# Altium footprint library PcbLib1.PcbLib: 28 footprints (part 2 of 2)
Each footprint in its own frame and in the unit in brackets; x right, y up, seen from the top. Pads: shape width x height; smd on the part's side, far side on the other; paste and mask are expansions set on the pad; w line width, h text height; cw(c..) or ccw(c..) is an arc to the next point about the centre after c.
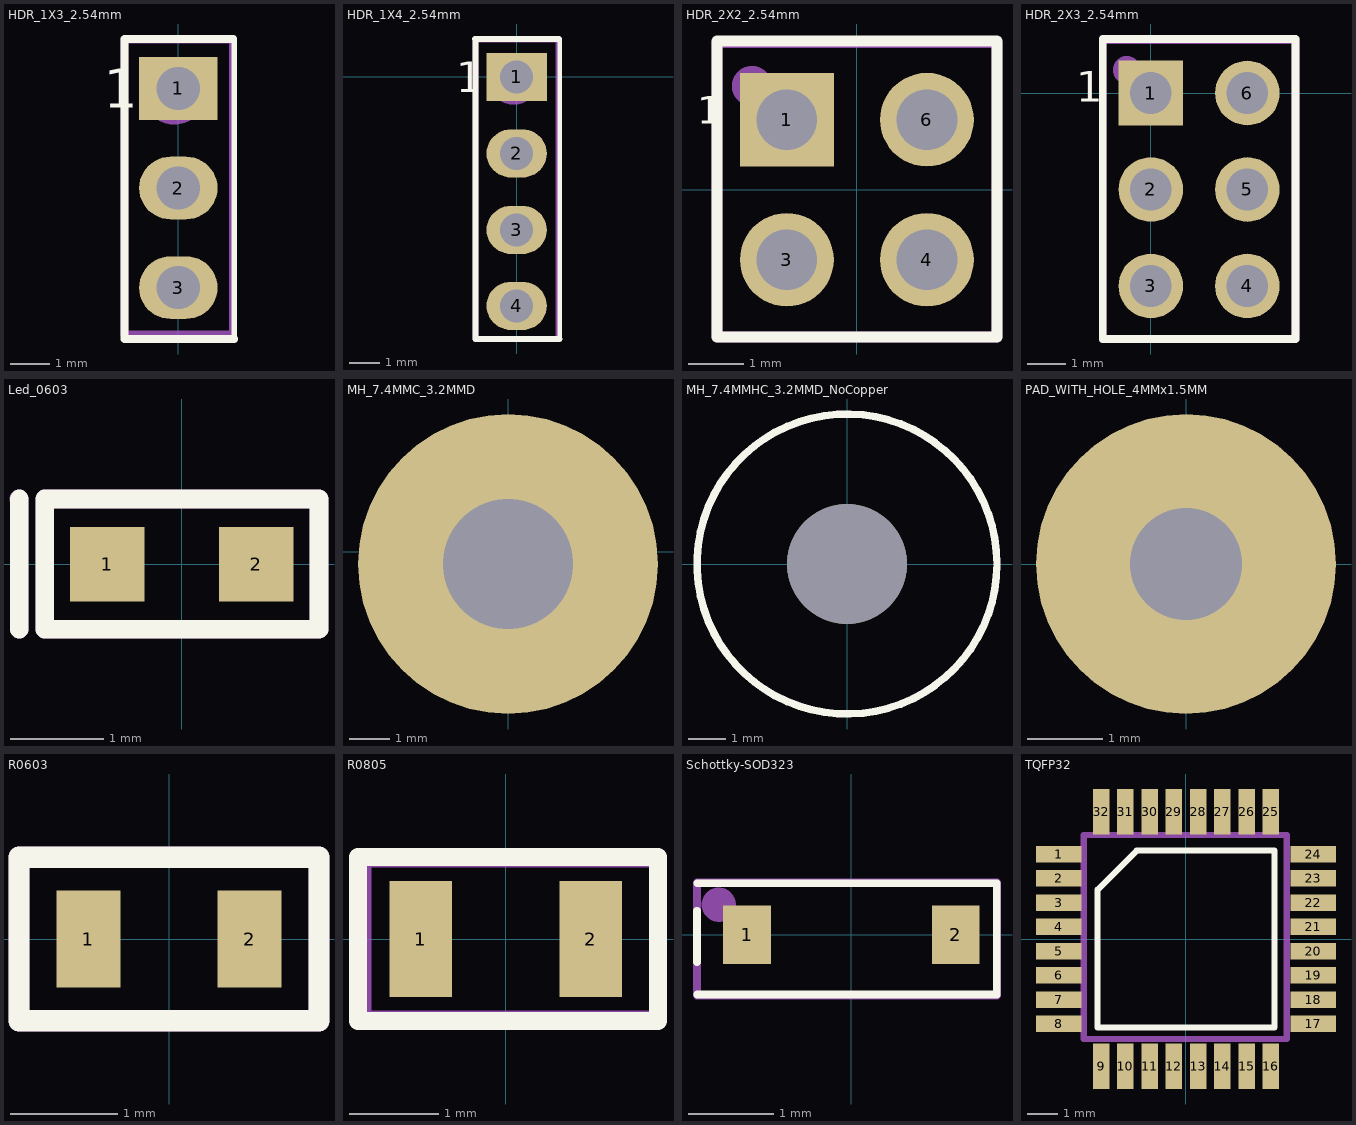
[diagram p1: the footprints below, top view; thin cyan lines are the x and y axes]

## HDR_1X3_2.54mm [mm]
pads (3):
  rect 2x1.6 hole 1.1: 1(0,8.89)
  oval 2x1.6 hole 1.1: 2(0,6.35) 3(0,3.81)
Top Overlay:
  lines w0.15: 1.4,10.15 1.425,10.15 1.425,2.5
  lines w0.2: -1.375,10.15 1.4,10.15 ; -1.372,2.5 -1.372,10.135 ; -1.35,2.5 1.425,2.5
  text "1" at -1.9,8.4 h1
Mechanical 29:
  circle w0.9: c-0.1,8.79 r0.372
  lines w0.2: -1.372,2.616 -1.372,10.135 1.397,10.135 1.397,2.616 -1.372,2.616
  text ".Designator" at 0.39,5.613 h1.19
3D body "HDR_1x3_White.stp": height 8.19, standoff -3.31, extent -1.194,2.765 1.216,9.985

## HDR_1X4_2.54mm [mm]
pads (4):
  rect 2x1.6 hole 1.1: 1(0,0)
  oval 2x1.6 hole 1.1: 2(0,-2.54) 3(0,-5.08) 4(0,-7.6)
Top Overlay:
  lines w0.15: 1.4,1.26 1.425,1.26 1.425,-8.7
  lines w0.2: -1.375,1.26 1.4,1.26 ; -1.372,1.245 -1.372,-8.7 1.425,-8.7
  text "1" at -2,-0.5 h1
Mechanical 29:
  circle w0.9: c-0.1,-0.1 r0.372
  lines w0.2: -1.372,-8.7 -1.372,1.245 1.397,1.245 1.397,-8.7 -1.372,-8.7
  text ".Designator" at 0.39,-3.277 h1.19
3D body "HDR_1x4_White.stp": height 8.6, standoff -2.9, extent -1.21,-8.48 1.2,1.28

## HDR_2X2_2.54mm [mm]
pads (4):
  rect 1.7x1.7 hole 1.1: 1(-1.27,1.27)
  round 1.7 hole 1.1: 3(-1.27,-1.27) 4(1.27,-1.27) 6(1.27,1.27)
Top Overlay:
  lines w0.2: -2.54,-2.667 2.54,-2.667 2.54,2.692 -2.54,2.692 -2.54,-2.667
  text "1" at -2.9,1.2 h0.5
Mechanical 29:
  circle w0.5: c-1.905,1.88 r0.114
  lines w0.2: -2.54,-2.667 2.54,-2.667 2.54,2.667 -2.54,2.667 -2.54,-2.667
  text ".Designator" at 0.719,-1.07 h1.05
3D body "User Library-2x2 Header RM200 SMD.step": height 2.73, standoff -3.97, extent -2,-3.25 2,3.25

## HDR_2X3_2.54mm [mm]
pads (6):
  rect 1.7x1.7 hole 1.1: 1(0,0)
  round 1.7 hole 1.1: 2(0,-2.54) 3(0,-5.08) 4(2.54,-5.08) 5(2.54,-2.54) 6(2.54,0)
Top Overlay:
  lines w0.2: -1.27,-6.477 -1.27,1.422 3.81,1.422 3.81,-6.477 -1.27,-6.477
  text "1" at -1.959,-0.232 h0.8
Mechanical 29:
  circle w0.5: c-0.635,0.61 r0.114
  lines w0.2: -1.27,-6.477 -1.27,1.397 3.81,1.397 3.81,-6.477 -1.27,-6.477
  text ".Designator" at 1.481,-4.423 h1.05
3D body "ICSP header Library-2x3 TH Pitch 2_54mm.STEP": height 8.96, standoff -3.74, extent -1.27,-6.477 3.81,1.143

## Led_0603 [mm]
pads (2):
  rect 0.8x0.8 smd: 1(-0.8,0) 2(0.8,0)
Top Overlay:
  lines w0.2: -1.75,-0.7 -1.75,0.7 ; -1.475,-0.7 -1.475,0.7 1.475,0.7 1.475,-0.7 -1.475,-0.7
Mechanical 29:
  lines w0.2: -1.751,0.699 -1.747,0.699 -1.747,-0.7 ; -1.751,0.702 -1.747,0.702 ; -1.475,-0.7 -1.475,0.7 1.475,0.7 1.475,-0.7 -1.475,-0.7
  text ".Designator" at 0.136,-0.242 h0.5
3D body "LED SMD0603.step": height 0.68, standoff 0, extent -0.869,-0.361 0.781,0.364

## MH_7.4MMC_3.2MMD [mm]
pads (1):
  round 7.4 hole 3.2: ""(0,-0.3)

## MH_7.4MMHC_3.2MMD_NoCopper [mm]
pads (1):
  round 3.2 hole 3.2 unplated: ""(0,0)
Top Overlay:
  circle w0.2: c0,0 r4.005

## PAD_WITH_HOLE_4MMx1.5MM [mm]
pads (1):
  round 4 hole 1.5 paste+0: ""(0,0)

## R0603 [mm]
pads (2):
  rect 0.6x0.9 smd: 1(-0.75,0) 2(0.75,0)
Top Overlay:
  lines w0.2: -1.397,-0.762 -1.397,0.762 1.397,0.762 1.397,-0.762 -1.397,-0.762
Mechanical 29:
  lines w0.2: -1.397,-0.762 -1.397,0.762 1.397,0.762 1.397,-0.762 -1.397,-0.762
  text ".Designator" at -0.154,-0.114 h0.5
3D body "R0603.step": height 0.85, standoff 0.01, extent -0.8,-0.4 0.8,0.4

## R0805 [mm]
pads (2):
  rect 0.7x1.3 smd: 1(-0.95,0) 2(0.95,0)
Top Overlay:
  lines w0.2: -1.651,-0.914 1.702,-0.914 1.702,0.914 -1.651,0.914 -1.651,-0.914
Mechanical 29:
  lines w0.2: -1.6,-0.9 1.7,-0.9 1.7,0.9 -1.6,0.9 -1.6,-0.9
  text ".Designator" at 0.15,-0.633 h0.5
3D body "0805R.step": height 0.71, standoff 0.01, extent -1,-0.6 1,0.6

## Schottky-SOD323 [mil]
pads (2):
  rect 22x27 smd: 1(-48,0) 2(48,0)
Top Overlay:
  lines w3.54: -71,-12.62 -71,11 ; -70.87,-27.56 66.93,-27.56 66.93,23.62 -70.87,23.62
Mechanical 29:
  circle w7.87: c-61.02,13.78 r3.94
  lines w3.54: -71,-28 -71,24 67,24 67,-28 -71,-28
  text ".Designator" at 1.94,-17.5 h19.68
3D body "SOD323-1.step": height 43.31, standoff 0, extent -51.18,-26.57 51.18,26.58

## TQFP32 [mm]
pads (32):
  rect 1.5x0.55 smd: 1(-4.2,2.8) 2(-4.2,2) 3(-4.2,1.2) 4(-4.2,0.4) 5(-4.2,-0.4) 6(-4.2,-1.2) 7(-4.2,-2) 8(-4.2,-2.8) 17(4.2,-2.8) 18(4.2,-2) 19(4.2,-1.2) 20(4.2,-0.4) 21(4.2,0.4) 22(4.2,1.2) 23(4.2,2) 24(4.2,2.8)
  rect 0.55x1.5 smd: 9(-2.8,-4.2) 10(-2,-4.2) 11(-1.2,-4.2) 12(-0.4,-4.2) 13(0.4,-4.2) 14(1.2,-4.2) 15(2,-4.2) 16(2.8,-4.2) 25(2.8,4.2) 26(2,4.2) 27(1.2,4.2) 28(0.4,4.2) 29(-0.4,4.2) 30(-1.2,4.2) 31(-2,4.2) 32(-2.8,4.2)
Top Overlay:
  lines w0.2: -2.915,-2.915 -2.915,1.63 -1.63,2.915 2.915,2.915 2.915,-2.915 -2.915,-2.915
Mechanical 1:
  lines w0.2: -3.375,-3.3 3.325,-3.3 3.325,3.425 3.225,3.425 -3.375,3.425 -3.375,-3.3
  text ".Designator" at -0.521,-0.073 h1.19
3D body "User Library-tqfp32.step": height 1.2, standoff 0, extent -4.574,-4.589 4.625,4.61